# Altium footprint library TRIM_EVN-D8AA03B55.PcbLib: 1 footprints
Each footprint in its own frame and in the unit in brackets; x right, y up, seen from the top. Pads: shape width x height; smd on the part's side, far side on the other; paste and mask are expansions set on the pad; w line width, h text height; cw(c..) or ccw(c..) is an arc to the next point about the centre after c.
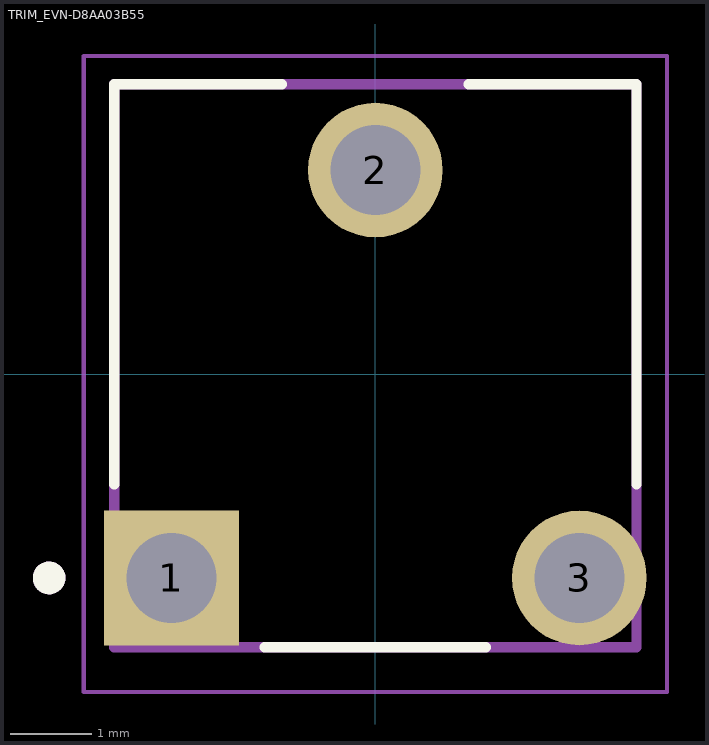
[diagram p0: the footprint, top view; thin cyan lines are the x and y axes]

## TRIM_EVN-D8AA03B55 [mm]
height 6.35
pads (3):
  rect 1.65x1.65 / inner round 1.65 / far side rect 1.65x1.65 hole 1.1: 1(-2.5,-2.5)
  round 1.65 hole 1.1: 2(0,2.5) 3(2.5,-2.5)
Top Overlay:
  circle w0.2: c-4,-2.5 r0.1
  lines w0.127: -3.2,-1.355 -3.2,3.55 -1.145,3.55 ; -1.355,-3.35 1.355,-3.35 ; 1.145,3.55 3.2,3.55 3.2,-1.355
Mechanical 13:
  circle w0.2: c-4,-2.5 r0.1
  lines w0.127: -3.2,-3.35 3.2,-3.35 3.2,3.55 -3.2,3.55 -3.2,-3.35
Mechanical 15:
  lines w0.05: -3.575,-3.9 -3.575,3.9 3.575,3.9 3.575,-3.9 -3.575,-3.9
3D body "step_temp.STEP": height 6.35, standoff -4, extent -3.2,-3.65 3.2,3.65